# EAGLE library part TPS62160 (library ICs)
BUCK, 3V-17VIN, 2.25MHZ, 1A, ADJ, 8MSOP
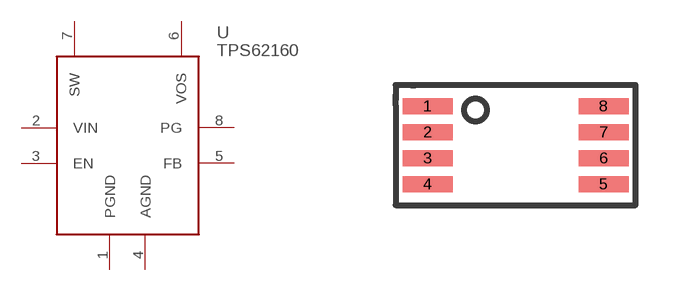
[diagram p61: symbol with the pads of MSOP8; footprint MSOP8]

Designator prefix U

## TPS62160DGKR (DIGIKEY: 296-41758-1-ND; HEIGHT: 1; PRICE_PER: 1.4; VALUE: TPS62160)  [MSOP8]
1  PGND
2  VIN
3  EN
4  AGND
5  FB
6  VOS
7  SW
8  PG

## Footprint MSOP8 (pad centres in mm)
smd 1.25 x 0.4: 1 -2.2,0.975; 2 -2.2,0.325; 3 -2.2,-0.325; 4 -2.2,-0.975; 5 2.2,-0.975; 6 2.2,-0.325; 7 2.2,0.325; 8 2.2,0.975